# EAGLE library part EPCS4 (library Jim)
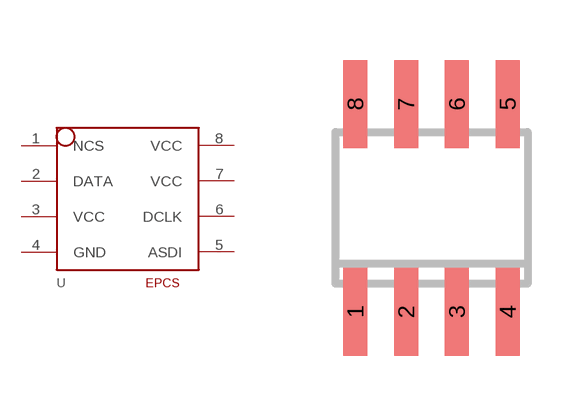
[diagram p27: symbol with the pads of SOIC-8; footprint SOIC-8]

Designator prefix -

## EPCS4  [SOIC-8]
1  NCS
2  DATA
3  VCC
4  GND
5  ASDI
6  DCLK
7  VCC
8  VCC

## Footprint SOIC-8 (pad centres in mm)
smd 0.6 x 2.2: 1 -1.905,-2.6; 2 -0.635,-2.6; 3 0.635,-2.6; 4 1.905,-2.6; 5 1.905,2.6; 6 0.635,2.6; 7 -0.635,2.6; 8 -1.905,2.6